# Altium footprint library HC05.PcbLib: 1 footprints
Each footprint in its own frame and in the unit in brackets; x right, y up, seen from the top. Pads: shape width x height; smd on the part's side, far side on the other; paste and mask are expansions set on the pad; w line width, h text height; cw(c..) or ccw(c..) is an arc to the next point about the centre after c.
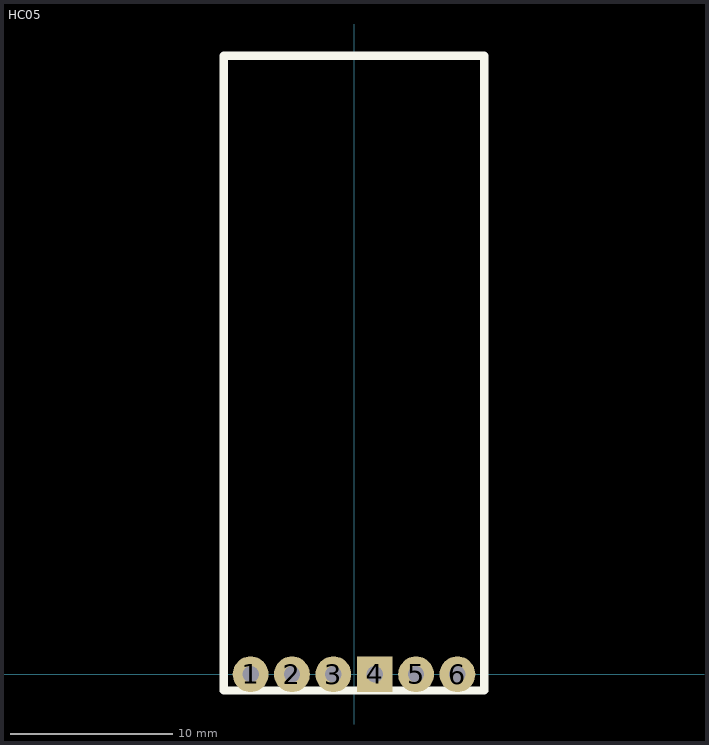
[diagram p0: the footprint, top view; thin cyan lines are the x and y axes]

## HC05 [mm]
pads (6):
  round 2.2 hole 1: 1(-6.35,0) 2(-3.81,0) 3(-1.27,0) 5(3.81,0) 6(6.35,0)
  rect 2.2x2.2 hole 1: 4(1.27,0)
Top Overlay:
  lines w0.5: -8,-1 -8,38 8,38 8,-1 -8,-1